# Altium schematic symbol library Diodes.SchLib: 4 symbols
Pins are listed as number, name and electrical type; pins without a type are passive.

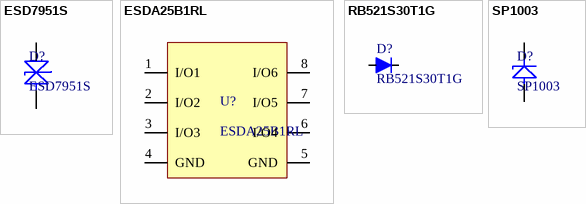
[diagram p0: symbols ESD7951S to SP1003]

## ESD7951S
designator D?
TVS Diode
pins: 1 CATHODE, 2 ANODE

## ESDA25B1RL
designator U?
TVS Diode Array
pins: 1 I/O1, 2 I/O2, 3 I/O3, 4 GND (power), 5 GND (power), 6 I/O4, 7 I/O5, 8 I/O6

## RB521S30T1G
designator D?
Schottky Diode
pins: 1 CATHODE, 2 ANODE

## SP1003
designator D?
30kV 30pF TVS Diode
pins: 1, 2